# EAGLE library part JTAG_HEADER (library heck)
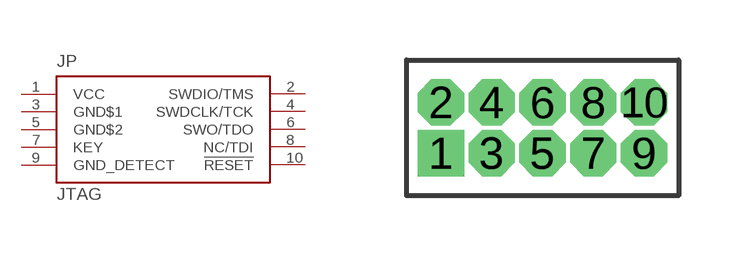
[diagram p55: symbol with the pads of HEADER_50MIL_2X5_PTH; footprint HEADER_50MIL_2X5_PTH]

Designator prefix JP

## JTAG_HEADER  [HEADER_50MIL_2X5_PTH]
1  VCC  pwr
2  SWDIO/TMS
3  GND$1  pwr
4  SWDCLK/TCK
5  GND$2  pwr
6  SWO/TDO
7  KEY  nc
8  NC/TDI
9  GND_DETECT  pwr
10  !RESET

## Footprint HEADER_50MIL_2X5_PTH (pad centres in mm)
PIN HEADER
drill 0.65 pad 1.05 square: 1 -2.54,-0.635
drill 0.65 pad 1.05 octagon: 2 -2.54,0.635; 3 -1.27,-0.635; 4 -1.27,0.635; 5 0,-0.635; 6 0,0.635; 7 1.27,-0.635; 8 1.27,0.635; 9 2.54,-0.635; 10 2.54,0.635